# Altium footprint library 691 243 410 0xx.PcbLib: 8 footprints
Each footprint in its own frame and in the unit in brackets; x right, y up, seen from the top. Pads: shape width x height; smd on the part's side, far side on the other; paste and mask are expansions set on the pad; w line width, h text height; cw(c..) or ccw(c..) is an arc to the next point about the centre after c.
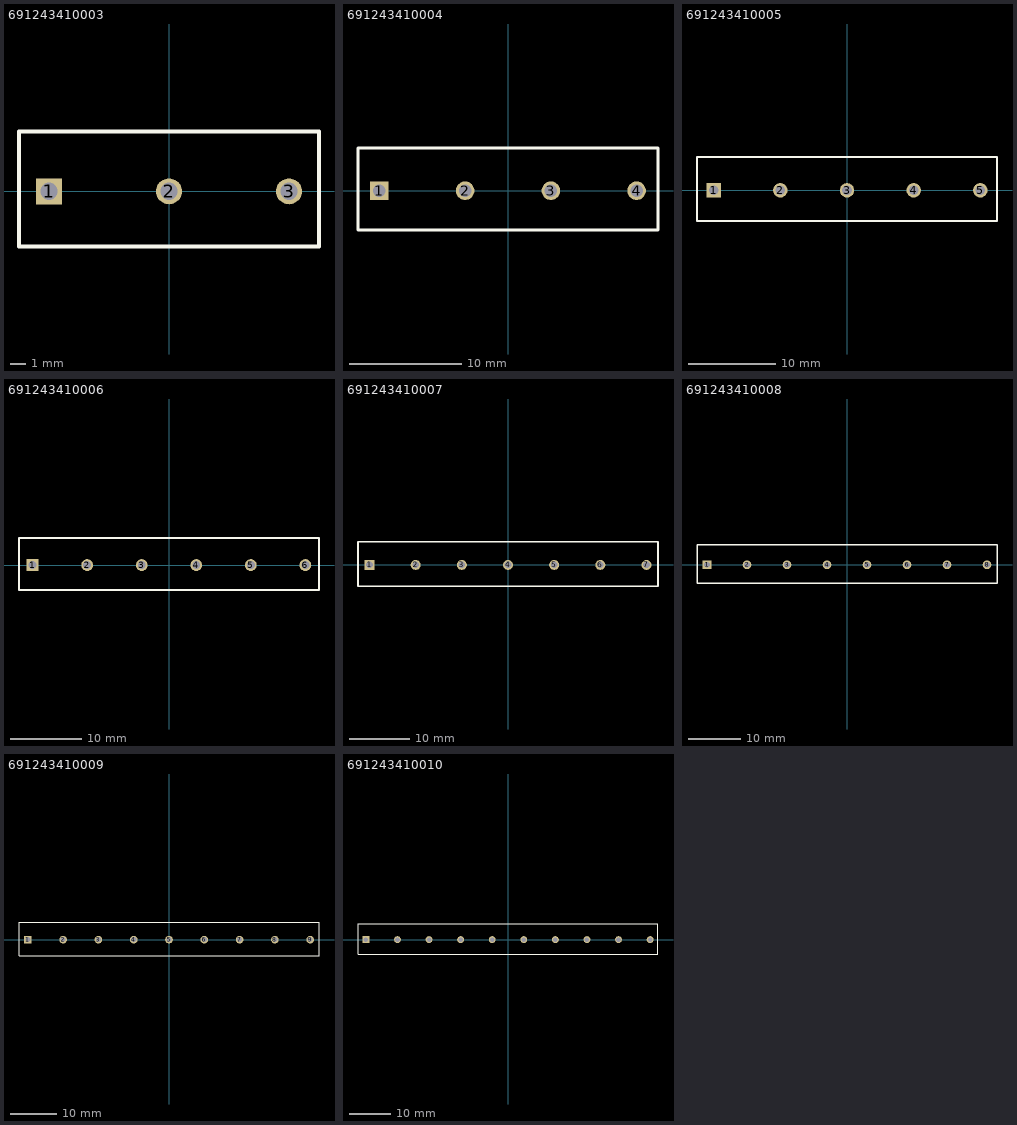
[diagram p0: the footprints below, top view; thin cyan lines are the x and y axes]

## 691243410003 [mm] "Serie 2434 - 7.62 mm _ 3 pins"
height 9.1
pads (3):
  rect 1.65x1.65 hole 1.1: 1(-7.62,0)
  round 1.65 hole 1.1: 2(0,0) 3(7.62,0)
Top Overlay:
  lines w0.254: -9.525,-3.5 -9.525,3.8 9.525,3.8 9.525,-3.5 -9.525,-3.5
3D body: height 9.1, standoff -3.5, extent -9.525,-3.5 9.525,3.8

## 691243410004 [mm] "Serie 2434 - 7.62 mm _ 4 pins"
height 9.1
pads (4):
  rect 1.65x1.65 hole 1.1: 1(-11.43,0)
  round 1.65 hole 1.1: 2(-3.81,0) 3(3.81,0) 4(11.43,0)
Top Overlay:
  lines w0.254: -13.335,-3.5 13.335,-3.5 13.335,3.8 -13.335,3.8 -13.335,-3.5
3D body: height 9.1, standoff -3.5, extent -13.3,-3.5 13.37,3.8

## 691243410005 [mm] "Serie 2434 - 7.62 mm _ 5 pins"
height 9.1
pads (5):
  rect 1.65x1.65 hole 1.1: 1(-15.24,0)
  round 1.65 hole 1.1: 2(-7.62,0) 3(0,0) 4(7.62,0) 5(15.24,0)
Top Overlay:
  lines w0.254: -17.145,-3.5 -17.145,3.8 17.145,3.8 17.145,-3.5 -17.145,-3.5
3D body: height 9.1, standoff -3.5, extent -17.1,-3.5 17.19,3.8

## 691243410006 [mm] "Serie 2434 - 7.62 mm _ 6 pins"
height 9.1
pads (6):
  rect 1.65x1.65 hole 1.1: 1(-19.05,0)
  round 1.65 hole 1.1: 2(-11.43,0) 3(-3.81,0) 4(3.81,0) 5(11.43,0) 6(19.05,0)
Top Overlay:
  lines w0.254: -20.955,-3.5 -20.955,3.8 20.955,3.8 20.955,-3.5 -20.955,-3.5
3D body: height 9.1, standoff -3.5, extent -20.91,-3.5 21,3.8

## 691243410007 [mm] "Serie 2434 - 7.62 mm _ 7 pins"
height 9.1
pads (7):
  rect 1.65x1.65 hole 1.1: 1(-22.86,0)
  round 1.65 hole 1.1: 2(-15.24,0) 3(-7.62,0) 4(0,0) 5(7.62,0) 6(15.24,0) 7(22.86,0)
Top Overlay:
  lines w0.254: -24.765,-3.5 -24.765,3.8 24.765,3.8 24.765,-3.5 -24.765,-3.5
3D body: height 9.1, standoff -3.5, extent -24.8,-3.5 24.73,3.8

## 691243410008 [mm] "Serie 2434 - 7.62 mm _ 8 pins"
height 9.1
pads (8):
  rect 1.65x1.65 hole 1.1: 1(-26.67,0)
  round 1.65 hole 1.1: 2(-19.05,0) 3(-11.43,0) 4(-3.81,0) 5(3.81,0) 6(11.43,0) 7(19.05,0) 8(26.67,0)
Top Overlay:
  lines w0.254: -28.575,-3.5 -28.575,3.8 28.575,3.8 28.575,-3.5 -28.575,-3.5
3D body: height 9.1, standoff -3.5, extent -28.6,-3.5 28.55,3.8

## 691243410009 [mm] "Serie 2434 - 7.62 mm _ 9 pins"
height 9.1
pads (9):
  rect 1.65x1.65 hole 1.1: 1(-30.48,0)
  round 1.65 hole 1.1: 2(-22.86,0) 3(-15.24,0) 4(-7.62,0) 5(0,0) 6(7.62,0) 7(15.24,0) 8(22.86,0) 9(30.48,0)
Top Overlay:
  lines w0.254: -32.385,-3.5 -32.385,3.8 32.385,3.8 32.385,-3.5 -32.385,-3.5
3D body: height 9.1, standoff -3.5, extent -32.4,-3.5 32.37,3.8

## 691243410010 [mm] "Serie 2434 - 7.62 mm _ 10 pins"
height 9.1
pads (10):
  rect 1.65x1.65 hole 1.1: 1(-34.29,0)
  round 1.65 hole 1.1: 2(-26.67,0) 3(-19.05,0) 4(-11.43,0) 5(-3.81,0) 6(3.81,0) 7(11.43,0) 8(19.05,0) 9(26.67,0) 10(34.29,0)
Top Overlay:
  lines w0.254: -36.195,-3.5 36.195,-3.5 36.195,3.8 -36.195,3.8 -36.195,-3.5
3D body: height 9.1, standoff -3.5, extent -36.2,-3.5 36.19,3.8